# Altium schematic symbol library Amphenol_Coaxial_Connectors.SchLib: 1 symbol
Pins are listed as number, name and electrical type; pins without a type are passive.

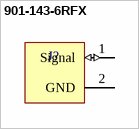
[diagram p0: symbol 901-143-6RFX]

## 901-143-6RFX
designator J?  (value not drawn)
RF Connector, SMA Right Angle PCB Jack, 50 Ohm; Manufacturer: Amphenol; Description: RF Connectors / Coaxial Connectors R/A PCB RECEPTACLE; Isolation Type: Not Isolated; Contact Termination: Solder; Mating Cycles: 100; Body Finish: Gold; Coupling Mechanism: Threaded; Maximum Frequency: 18 GHz; Body Material: Brass; Impedance: 50 Ohms; Insulation Resistance: 5000 MOhms; Drawing File: https://www.amphenolrf.com/downloads/dl/file/id/2712/product/3102/901_143_6rfx_customer_drawing.pdf; Supplier 1: Mouser; Manufacturer Part Number: 901-143-6RFX; Category: RF Connectors / Coaxial Connectors; Contact Plating: Gold; Gender: Jack; Contact Material: Beryllium Copper; Termination Style: PCB - Through Hole; RF Series: SMA; Body Style: Right Angle; Pricing: 1=6.53, 10=6.26, 25=5.72, 50=5.44, 100=5.17, 250=4.63, 500=4.36, 1000=3.81, 2500=3.62 (USD); Supplier 2: Digi-Key; Supplier Part Number 1: 523-901-143-6RFX; Supplier Part Number 2: ARFX1232-ND
footprint 901-143-6RFX (RF Connector, SMA Right Angle PCB Jack, 50 Ohm)
pins: 1 Signal (io) "RF Signal Input", 2 GND "Ground"